# Altium schematic symbol library SPH0645LM4H-B.Schlib: 1 symbol
Pins are listed as number, name and electrical type; pins without a type are passive.

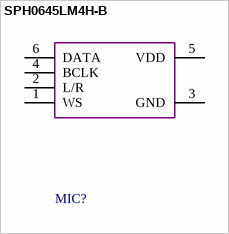
[diagram p0: symbol SPH0645LM4H-B]

## SPH0645LM4H-B
designator MIC?  (value not drawn)
pins: 1 WS, 2 L/R, 3 GND, 4 BCLK, 5 VDD, 6 DATA